# Altium schematic symbol library ABM10-48.000MHZ-D30-T3.Schlib: 1 symbol
Pins are listed as number, name and electrical type; pins without a type are passive.

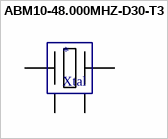
[diagram p0: symbol ABM10-48.000MHZ-D30-T3]

## ABM10-48.000MHZ-D30-T3
designator *, comment Xtal
XTAL SMT 2.5x2.0mm 48MHz
pins: 1, 2, 3, 4